# EAGLE library part TC4051B (library Tic-Tac-Toe_Component)
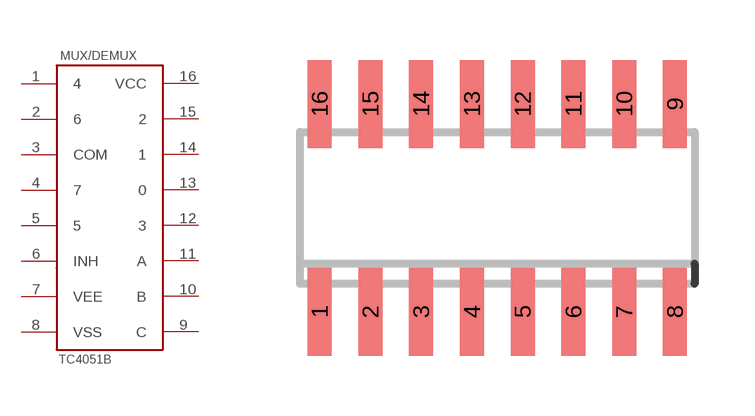
[diagram p2: symbol with the pads of SOIC16N; footprint SOIC16N]

Designator prefix MUX/DEMUX

## TC4051B  [SOIC16N]
1  4  in
2  6  in
3  COM  in
4  7  in
5  5  out
6  INH  out
7  VEE  in
8  VSS  pwr
9  C  in
10  B  in
11  A  in
12  3  in
13  0  in
14  1  in
15  2  in
16  VCC  pwr

## Footprint SOIC16N (pad centres in mm)
SMALL OUTLINE INTEGRATED CIRCUIT
smd 0.6 x 2.2: 1 -4.445,-2.6; 2 -3.175,-2.6; 3 -1.905,-2.6; 4 -0.635,-2.6; 5 0.635,-2.6; 6 1.905,-2.6; 7 3.175,-2.6; 8 4.445,-2.6; 9 4.445,2.6; 10 3.175,2.6; 11 1.905,2.6; 12 0.635,2.6; 13 -0.635,2.6; 14 -1.905,2.6; 15 -3.175,2.6; 16 -4.445,2.6